# EAGLE library part VGA-* (library VideoConnectors)
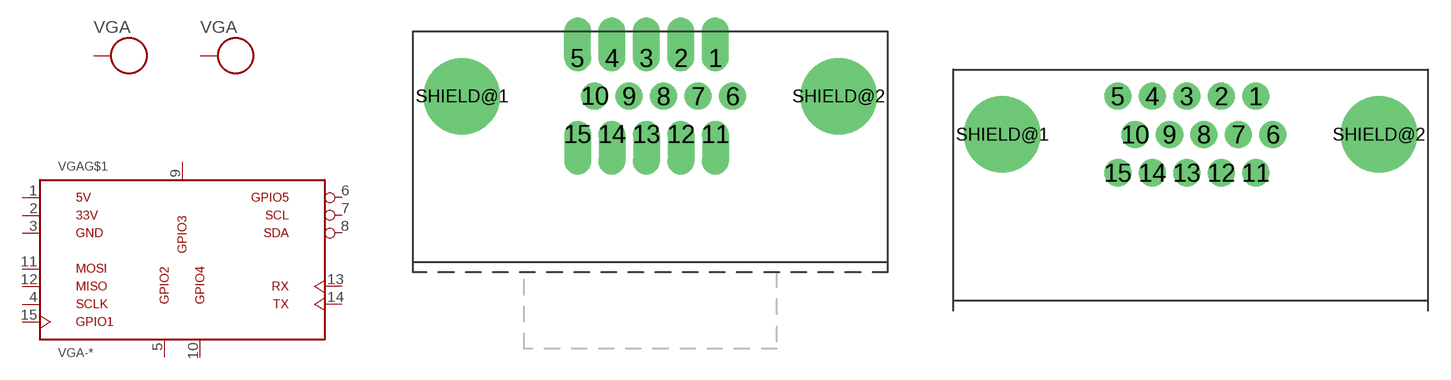
[diagram p2: symbol with the pads of DB-15-F90+SHIELD-BIG_PADS; footprints DB-15-F90+SHIELD-BIG_PADS, DB-15-F90+SHIELD-SMALL_PADS]

Designator prefix VGA; gates G$1=CON-VGA-15 G$2=SHIELD G$3=SHIELD

## VGA-F90B  [DB-15-F90+SHIELD-BIG_PADS]
1  G$1:VGA-R
2  G$1:VGA-G
3  G$1:VGA-B
4  G$1:ID2/RES  pas
5  G$1:GND  pas
6  G$1:VGA-R-  pas
7  G$1:VGA-G-  pas
8  G$1:VGA-B-  pas
9  G$1:+5V  pwr
10  G$1:GND  pas
11  G$1:ID0/RES  pas
12  G$1:ID1/SDA
13  G$1:VGA-HSYNC
14  G$1:VGA-VSYNC
15  G$1:ID3/SCL
SHIELD@1  G$2:SHIELD  pas
SHIELD@2  G$3:SHIELD  pas

## VGA-F90S  [DB-15-F90+SHIELD-SMALL_PADS]
Pads as for DB-15-F90+SHIELD-BIG_PADS

## Footprint DB-15-F90+SHIELD-BIG_PADS (pad centres in mm)
drill 1.194 offset: 1 4.318,14.224; 2 2.032,14.224; 3 -0.254,14.224; 4 -2.54,14.224; 5 -4.826,14.224; 11 4.318,9.144; 12 2.032,9.144; 13 -0.254,9.144; 14 -2.54,9.144; 15 -4.826,9.144
drill 1.194: 6 5.461,11.684; 7 3.175,11.684; 8 0.889,11.684; 9 -1.397,11.684; 10 -3.683,11.684
drill 3.175 pad 5.08: SHIELD@1 -12.497,11.684; SHIELD@2 12.497,11.684

## Footprint DB-15-F90+SHIELD-SMALL_PADS (pad centres in mm)
drill 1.2 pad 1.524: 1 4.318,14.224; 2 2.032,14.224; 3 -0.254,14.224; 4 -2.54,14.224; 5 -4.826,14.224; 6 5.461,11.684; 7 3.175,11.684; 8 0.889,11.684; 9 -1.397,11.684; 10 -3.683,11.684; 11 4.318,9.144; 12 2.032,9.144; 13 -0.254,9.144; 14 -2.54,9.144; 15 -4.826,9.144
drill 3.175 pad 5.08: SHIELD@1 -12.497,11.684; SHIELD@2 12.497,11.684